# Altium footprint library HAKATAYA.PcbLib: 227 footprints (part 1 of 15)
Each footprint in its own frame and in the unit in brackets; x right, y up, seen from the top. Pads: shape width x height; smd on the part's side, far side on the other; paste and mask are expansions set on the pad; w line width, h text height; cw(c..) or ccw(c..) is an arc to the next point about the centre after c.
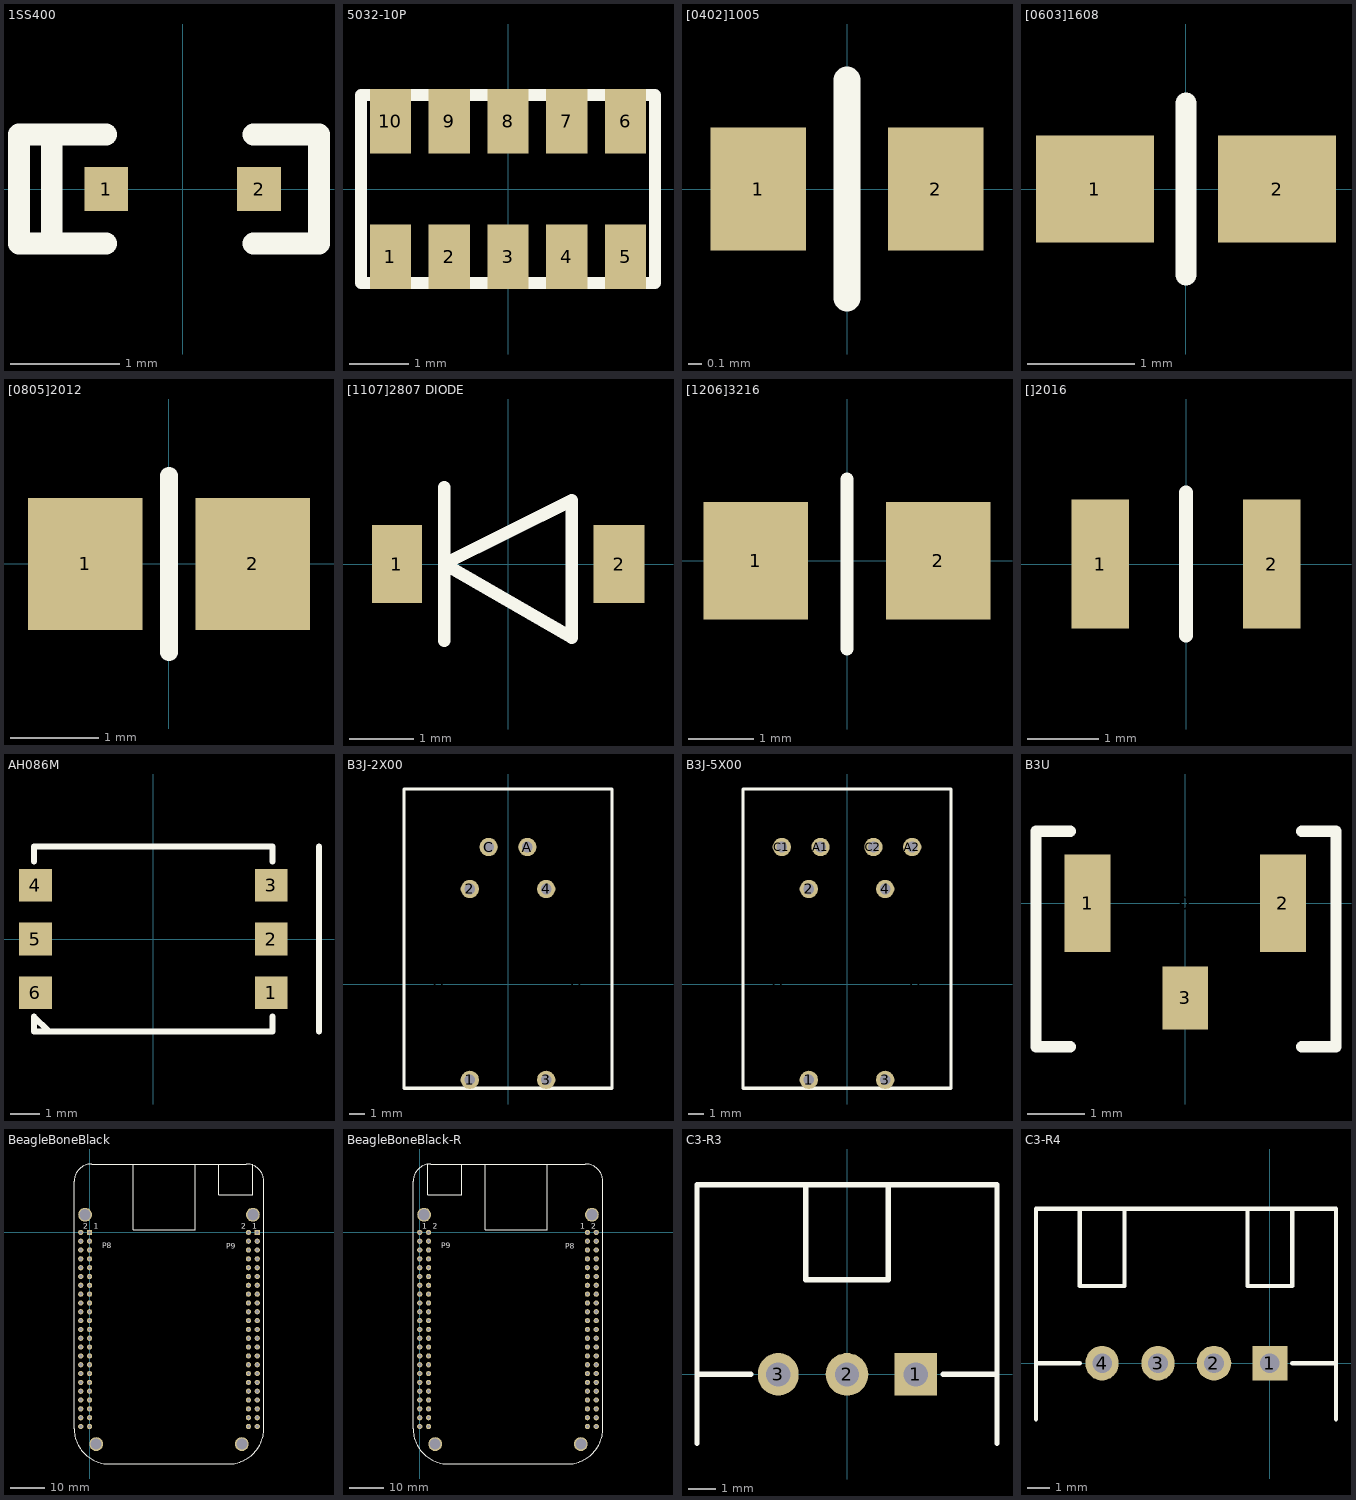
[diagram p0: the footprints below, top view; thin cyan lines are the x and y axes]

## 1SS400 [mm] "DIODE"
height 0.55
pads (2):
  rect 0.4x0.4 smd: 1(-0.7,0) 2(0.7,0)
Top Overlay:
  lines w0.2: -1.2,-0.5 -1.2,0.5 ; -0.7,-0.5 -1.5,-0.5 -1.5,0.5 -0.7,0.5 ; 0.65,-0.5 1.25,-0.5 1.25,0.5 0.65,0.5

## 5032-10P [mm] "EPSON XV7001B"
height 1.3
pads (10):
  rect 0.7x1.1 smd: 1(-2,-1.15) 2(-1,-1.15) 3(0,-1.15) 4(1,-1.15) 5(2,-1.15) 6(2,1.15) 7(1,1.15) 8(0,1.15) 9(-1,1.15) 10(-2,1.15)
Top Overlay:
  lines w0.2: -2.5,-1.6 2.5,-1.6 2.5,1.6 -2.5,1.6 -2.5,-1.6

## [0402]1005 [mm] "SMD 1.0mm x 0.5mm"
pads (2):
  rect 0.7x0.9 smd: 1(-0.65,0) 2(0.65,0)
Top Overlay:
  lines w0.2: 0,-0.8 0,0.8

## [0603]1608 [mm] "SMD 1.6x0.8"
height 1
pads (2):
  rect 1.1x1 smd: 1(-0.85,0) 2(0.85,0)
Top Overlay:
  lines w0.2: 0,-0.8 0,0.8

## [0805]2012 [mm] "SMD 2.0x1.25"
height 2
pads (2):
  rect 1.3x1.5 smd: 1(-0.95,0) 2(0.95,0)
Top Overlay:
  lines w0.2: 0,-1 0,1

## [1107]2807 DIODE [mm] "SMD DIODE 3mm x 1.8mm"
height 1
pads (2):
  rect 0.78x1.22 smd: 1(-1.74,0)
  rect 0.8x1.22 smd: 2(1.74,0)
Top Overlay:
  lines w0.2: -1,-1.2 -1,1.2 ; -1,0 1,-1.15 1,1 -1,0

## [1206]3216 [mm] "SMD 3.2x1.6"
height 3
pads (2):
  rect 1.6x1.8 smd: 1(-1.4,0) 2(1.4,0)
Top Overlay:
  lines w0.2: 0,-1.35 0,1.25

## []2016 [mm] "2.0 x 1.6 mm"
pads (2):
  rect 0.8x1.8 smd: 1(-1.2,0) 2(1.2,0)
Top Overlay:
  lines w0.2: 0,-1 0,1

## AH086M [mm] "TAIYO UWB CHIP ANTENNA"
height 1
pads (6):
  rect 1.1x1.1 smd: 1(3.95,-1.8) 2(3.95,0) 3(3.95,1.8) 4(-3.95,1.8) 5(-3.95,0) 6(-3.95,-1.8)
Top Overlay:
  lines w0.2: -4,2.6 -4,3.1 4,3.1 4,2.6 ; -3.525,-3.075 -4,-2.6 -4,-3.1 4,-3.1 4,-2.6 ; 5.55,-3.1 5.55,3.1

## B3J-2X00 [mm] "OMRON TACT-SW 1-LED"
height 10.3
pads (8):
  round 1.8 on Drill Guide: 0(-4.5,0) 0(4.5,0)
  round 1.2 hole 0.7: 1(-2.5,-6.25) 2(-2.5,6.25) 3(2.5,-6.25) 4(2.5,6.25) A(1.27,9) C(-1.27,9)
Top Overlay:
  lines w0.2: -6.8,-6.8 6.8,-6.8 6.8,12.8 -6.8,12.8 -6.8,-6.8

## B3J-5X00 [mm] "OMRON TACT-SW 2-LED"
height 10.3
pads (10):
  round 1.8 on Drill Guide: 0(-4.5,0) 0(4.5,0)
  round 1.2 hole 0.7: 1(-2.5,-6.25) 2(-2.5,6.25) 3(2.5,-6.25) 4(2.5,6.25) A1(-1.73,9) A2(4.27,9) C1(-4.27,9) C2(1.73,9)
Top Overlay:
  lines w0.2: -6.8,-6.8 6.8,-6.8 6.8,12.8 -6.8,12.8 -6.8,-6.8

## B3U [mm] "TACT-SW SMD"
height 1.2
pads (4):
  round 0.75 on Drill Drawing: 0(0,0)
  rect 0.8x1.7 smd: 1(-1.7,0) 2(1.7,0)
  rect 0.8x1.1 smd: 3(0,-1.65)
Top Overlay:
  lines w0.2: -2,-2.5 -2.6,-2.5 -2.6,1.25 -2,1.25 ; 2.025,-2.5 2.625,-2.5 2.625,1.25 2.025,1.25

## BeagleBoneBlack [mm]
pads (96):
  rect 1.5x1.5 hole 0.9: P8_1(0,0) P9_1(48.26,0)
  round 1.5 hole 0.9: P8_2(-2.54,0) P8_3(0,-2.54) P8_4(-2.54,-2.54) P8_5(0,-5.08) P8_6(-2.54,-5.08) P8_7(0,-7.62) P8_8(-2.54,-7.62) P8_9(0,-10.16) P8_10(-2.54,-10.16) P8_11(0,-12.7) P8_12(-2.54,-12.7) P8_13(0,-15.24) P8_14(-2.54,-15.24) P8_15(0,-17.78) P8_16(-2.54,-17.78) P8_17(0,-20.32) P8_18(-2.54,-20.32) P8_19(0,-22.86) P8_20(-2.54,-22.86) P8_21(0,-25.4) P8_22(-2.54,-25.4) P8_23(0,-27.94) P8_24(-2.54,-27.94) P8_25(0,-30.48) P8_26(-2.54,-30.48) P8_27(0,-33.02) P8_28(-2.54,-33.02) P8_29(0,-35.56) P8_30(-2.54,-35.56) P8_31(0,-38.1) P8_32(-2.54,-38.1) P8_33(0,-40.64) P8_34(-2.54,-40.64) P8_35(0,-43.18) P8_36(-2.54,-43.18) P8_37(0,-45.72) P8_38(-2.54,-45.72) P8_39(0,-48.26) P8_40(-2.54,-48.26) P8_41(0,-50.8) P8_42(-2.54,-50.8) P8_43(0,-53.34) P8_44(-2.54,-53.34) P8_45(0,-55.88) P8_46(-2.54,-55.88) P9_2(45.72,0) P9_3(48.26,-2.54) P9_4(45.72,-2.54) P9_5(48.26,-5.08) P9_6(45.72,-5.08) P9_7(48.26,-7.62) P9_8(45.72,-7.62) P9_9(48.26,-10.16) P9_10(45.72,-10.16) P9_11(48.26,-12.7) P9_12(45.72,-12.7) P9_13(48.26,-15.24) P9_14(45.72,-15.24) P9_15(48.26,-17.78) P9_16(45.72,-17.78) P9_17(48.26,-20.32) P9_18(45.72,-20.32) P9_19(48.26,-22.86) P9_20(45.72,-22.86) P9_21(48.26,-25.4) P9_22(45.72,-25.4) P9_23(48.26,-27.94) P9_24(45.72,-27.94) P9_25(48.26,-30.48) P9_26(45.72,-30.48) P9_27(48.26,-33.02) P9_28(45.72,-33.02) P9_29(48.26,-35.56) P9_30(45.72,-35.56) P9_31(48.26,-38.1) P9_32(45.72,-38.1) P9_33(48.26,-40.64) P9_34(45.72,-40.64) P9_35(48.26,-43.18) P9_36(45.72,-43.18) P9_37(48.26,-45.72) P9_38(45.72,-45.72) P9_39(48.26,-48.26) P9_40(45.72,-48.26) P9_41(48.26,-50.8) P9_42(45.72,-50.8) P9_43(48.26,-53.34) P9_44(45.72,-53.34) P9_45(48.26,-55.88) P9_46(45.72,-55.88)
  round 4 hole 3.175: ""(-1.27,5.08) ""(1.905,-60.96) ""(43.815,-60.96) ""(46.99,5.08)
Top Overlay:
  lines w0.2: 12.53,0.7 12.53,19.685 ; 12.55,0.7 30.43,0.7 30.43,19.685 ; 37.23,19.685 37.23,10.8 47.03,10.8 47.03,19.685 ; -4.445,-56.492 ccw(c5.738,-56.492) 5.738,-66.675 39.922,-66.675 ccw(c39.922,-56.432) 50.165,-56.432 50.165,14.685 ccw(c45.165,14.685) 45.165,19.685 0.555,19.685 ccw(c0.555,14.685) -4.445,14.685 -4.445,-56.492
  text "P8" at 3.581,-4.623 h1.52
  text "P9" at 39.395,-4.674 h1.52
  text "1" at 1.168,1.016 h1.52
  text "2" at 43.663,1.016 h1.52
  text "1" at 46.812,1.016 h1.52
  text "2" at -1.829,1.016 h1.52

## BeagleBoneBlack-R [mm]
pads (96):
  round 1.5 hole 0.9: P8_1(48.26,0) P8_2(50.8,0) P8_3(48.26,-2.54) P8_4(50.8,-2.54) P8_5(48.26,-5.08) P8_6(50.8,-5.08) P8_7(48.26,-7.62) P8_8(50.8,-7.62) P8_9(48.26,-10.16) P8_10(50.8,-10.16) P8_11(48.26,-12.7) P8_12(50.8,-12.7) P8_13(48.26,-15.24) P8_14(50.8,-15.24) P8_15(48.26,-17.78) P8_16(50.8,-17.78) P8_17(48.26,-20.32) P8_18(50.8,-20.32) P8_19(48.26,-22.86) P8_20(50.8,-22.86) P8_21(48.26,-25.4) P8_22(50.8,-25.4) P8_23(48.26,-27.94) P8_24(50.8,-27.94) P8_25(48.26,-30.48) P8_26(50.8,-30.48) P8_27(48.26,-33.02) P8_28(50.8,-33.02) P8_29(48.26,-35.56) P8_30(50.8,-35.56) P8_31(48.26,-38.1) P8_32(50.8,-38.1) P8_33(48.26,-40.64) P8_34(50.8,-40.64) P8_35(48.26,-43.18) P8_36(50.8,-43.18) P8_37(48.26,-45.72) P8_38(50.8,-45.72) P8_39(48.26,-48.26) P8_40(50.8,-48.26) P8_41(48.26,-50.8) P8_42(50.8,-50.8) P8_43(48.26,-53.34) P8_44(50.8,-53.34) P8_45(48.26,-55.88) P8_46(50.8,-55.88) P9_1(0,0) P9_2(2.54,0) P9_3(0,-2.54) P9_4(2.54,-2.54) P9_5(0,-5.08) P9_6(2.54,-5.08) P9_7(0,-7.62) P9_8(2.54,-7.62) P9_9(0,-10.16) P9_10(2.54,-10.16) P9_11(0,-12.7) P9_12(2.54,-12.7) P9_13(0,-15.24) P9_14(2.54,-15.24) P9_15(0,-17.78) P9_16(2.54,-17.78) P9_17(0,-20.32) P9_18(2.54,-20.32) P9_19(0,-22.86) P9_20(2.54,-22.86) P9_21(0,-25.4) P9_22(2.54,-25.4) P9_23(0,-27.94) P9_24(2.54,-27.94) P9_25(0,-30.48) P9_26(2.54,-30.48) P9_27(0,-33.02) P9_28(2.54,-33.02) P9_29(0,-35.56) P9_30(2.54,-35.56) P9_31(0,-38.1) P9_32(2.54,-38.1) P9_33(0,-40.64) P9_34(2.54,-40.64) P9_35(0,-43.18) P9_36(2.54,-43.18) P9_37(0,-45.72) P9_38(2.54,-45.72) P9_39(0,-48.26) P9_40(2.54,-48.26) P9_41(0,-50.8) P9_42(2.54,-50.8) P9_43(0,-53.34) P9_44(2.54,-53.34) P9_45(0,-55.88) P9_46(2.54,-55.88)
  round 4 hole 3.175: ""(1.27,5.08) ""(4.445,-60.96) ""(46.355,-60.96) ""(49.53,5.08)
Top Overlay:
  lines w0.2: 2.337,19.685 2.337,10.8 12.137,10.8 12.137,19.685 ; 18.823,19.685 18.823,0.7 36.703,0.7 36.703,19.685 ; -1.905,-56.492 ccw(c8.278,-56.492) 8.278,-66.675 42.462,-66.675 ccw(c42.462,-56.432) 52.705,-56.432 52.705,14.685 ccw(c47.705,14.685) 47.705,19.685 3.095,19.685 ccw(c3.095,14.685) -1.905,14.685 -1.905,-56.492
  text "1" at 0.711,1.016 h1.52
  text "2" at 49.352,1.016 h1.52
  text "1" at 46.203,1.016 h1.52
  text "2" at 3.708,1.016 h1.52
  text "P8" at 41.935,-4.674 h1.52
  text "P9" at 6.121,-4.623 h1.52

## C3-R3 [mil]
height 227.17
pads (3):
  rect 62x62 hole 35.04: 1(100,0)
  round 62 hole 35.04: 2(0,0)
  oval 59.06x62 hole 35.04: 3(-100,0)
Top Overlay:
  lines w7.87: -218.11,-100 -218.11,275.59 218.11,275.59 218.11,-100 ; -218.11,0 -140,0 ; -60,275.59 -60,137.8 60,137.8 60,275.59 ; 140,0 218.11,0

## C3-R4 [mm]
height 5.7
pads (4):
  rect 1.575x1.575 hole 0.89: 1(0,0)
  round 1.575 hole 0.89: 2(-2.54,0)
  oval 1.5x1.575 hole 0.89: 3(-5.08,0) 4(-7.62,0)
Top Overlay:
  lines w0.2: -10.62,-2.54 -10.62,7 3,7 3,-2.54 ; -10.62,0 -8.636,0 ; -8.636,7 -8.636,3.5 -6.604,3.5 -6.604,7 ; -1.016,7 -1.016,3.5 1.016,3.5 1.016,7 ; 1.016,0 3,0